# Altium schematic symbol library Schlib1.SchLib: 1 symbol
Pins are listed as number, name and electrical type; pins without a type are passive.

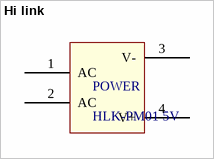
[diagram p0: symbol Hi link]

## Hi link
designator POWER, comment HLK-PM01 5V
Hi-link HLK-PM01
footprint HK LINK
pins: 1 AC, 2 AC, 3 V-, 4 V+